# Altium footprint library Udemy_Library.PcbLib: 38 footprints (part 3 of 3)
Each footprint in its own frame and in the unit in brackets; x right, y up, seen from the top. Pads: shape width x height; smd on the part's side, far side on the other; paste and mask are expansions set on the pad; w line width, h text height; cw(c..) or ccw(c..) is an arc to the next point about the centre after c.
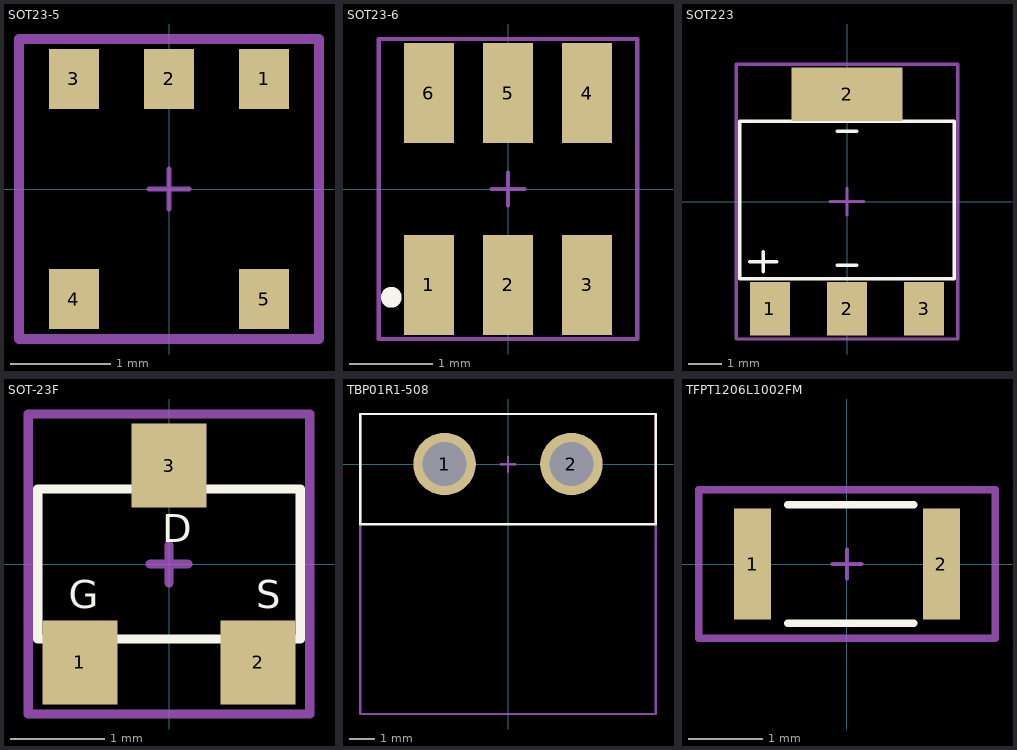
[diagram p2: the footprints below, top view; thin cyan lines are the x and y axes]

## SOT23-5 [mm]
pads (5):
  rect 0.5x0.6 smd mask+0.05: 1(0.95,1.1) 2(0,1.1) 3(-0.95,1.1) 4(-0.95,-1.1) 5(0.95,-1.1)
Top Component Center:
  lines w0.05: -0.2,0 0.2,0 ; 0,-0.2 0,0.2
  lines w0.1: -1.5,-1.5 -1.5,1.5 1.5,1.5 1.5,-1.5 -1.5,-1.5
Top Designator:
  lines w0.1: -1.5,-1.5 1.5,-1.5 1.5,1.5 -1.5,1.5 -1.5,-1.5
  text "d.Designator" at -0.553,-0.145 h0.3
3D body "SOT23-5.stp": height 1.2, standoff 0, extent -1.45,-1.4 1.45,1.4

## SOT23-6 [mm]
pads (6):
  rect 0.6x1.2 smd mask+0.05: 1(-0.95,-1.15) 2(0,-1.15) 3(0.95,-1.15) 4(0.95,1.15) 5(0,1.15) 6(-0.95,1.15)
Top Overlay:
  circle w0.15: c-1.4,-1.3 r0.05
Top Component Center:
  lines w0.05: -0.2,0 0.2,0 ; 0,-0.2 0,0.2 ; -1.55,-1.8 -1.55,1.8 1.55,1.8 1.55,-1.8 -1.55,-1.8
Top Designator:
  lines w0.05: -1.55,-1.8 1.55,-1.8 1.55,1.8 -1.55,1.8 -1.55,-1.8
  text "d.Designator" at -0.28,-0.263 h0.2
3D body "SOT23-6L_STM.step": height 1.45, standoff 0, extent -1.524,-1.499 1.524,1.499

## SOT223 [mm]
pads (4):
  rect 1.2x1.6 smd mask+0.05: 1(-2.3,-3.2) 2(0,-3.2) 3(2.3,-3.2)
  rect 3.3x1.6 smd mask+0.05: 2(0,3.2)
Top Overlay:
  lines w0.1: -2.9,-1.8 -2.1,-1.8 ; -2.5,-2.1 -2.5,-1.5 ; -0.3,-1.9 0.3,-1.9 ; -0.3,2.1 0.3,2.1 ; -3.2,-2.3 3.2,-2.3 3.2,2.4 -3.2,2.4 -3.2,-2.3
Top Component Center:
  lines w0.1: -0.5,0 0.5,0 ; 0,-0.4 0,0.4 ; -3.3,-4.1 -3.3,4.1 3.3,4.1 3.3,-4.1 -3.3,-4.1
Top Designator:
  lines w0.1: -3.3,-4.1 -3.3,4.1 3.3,4.1 3.3,-4.1 -3.3,-4.1
  text "d.Designator" at -2.7,0.667 h0.5
3D body "SOT-223.step": height 1.7, standoff 0.02, extent -3.25,-3.48 3.25,3.48

## SOT-23F [mm]
pads (3):
  rect 0.8x0.9 smd mask+0.05: 1(-0.95,-1.05) 2(0.95,-1.05) 3(0,1.05)
Top Overlay:
  lines w0.1: -1.4,-0.8 1.4,-0.8 1.4,0.8 0.3,0.8 -0.3,0.8 -1.4,0.8 -1.4,-0.8
  text "G" at -1.07,-0.47 h0.3
  text "S" at 0.93,-0.47 h0.3
  text "D" at -0.07,0.23 h0.3
Top Component Center:
  lines w0.1: -0.2,0 0.2,0 ; 0,-0.2 0,0.2 ; -1.5,-1.6 1.5,-1.6 1.5,1.6 -1.5,1.6 -1.5,-1.6
Top Designator:
  lines w0.1: -1.5,-1.6 1.5,-1.6 1.5,1.6 -1.5,1.6 -1.5,-1.6
  text "'d.Designator" at -1.15,-0.05 h0.3
3D body "SOT23F-1.STEP": height 0.91, standoff 0, extent -1.45,-1.2 1.45,1.2

## TBP01R1-508 [mm]
pads (2):
  round 2.5 hole 1.75 mask+0.05: 1(-2.54,0) 2(2.54,0)
Top Overlay:
  lines w0.1: -5.9,-2.4 -5.9,2 5.9,2 5.9,-2.4 -5.9,-2.4
Top Component Center:
  lines w0.1: -0.3,0 0.3,0 ; 0,-0.3 0,0.3 ; -5.9,-10 -5.9,2 5.9,2 5.9,-10 -5.9,-10
Top Designator:
  lines w0.1: -5.9,-10 -5.9,2 5.9,2 5.9,-10 -5.9,-10
  text "d.Designator" at -4.1,-3.733 h0.5
3D body "TBP01R1-508-02BE.step": height 9.5, standoff -3, extent -5.9,-10 5.86,2

## TFPT1206L1002FM [mm]
pads (2):
  rect 0.5x1.5 smd mask+0.05: 1(-1.275,0) 2(1.275,0)
Top Overlay:
  lines w0.1: -0.8,-0.8 0.9,-0.8 ; -0.8,0.8 0.9,0.8
Top Component Center:
  lines w0.05: -0.2,0 0.2,0 ; 0,-0.2 0,0.2
  lines w0.1: -2,-1 -2,1 2,1 2,-1 -2,-1
Top Designator:
  lines w0.1: -2,-1 2,-1 2,1 -2,1 -2,-1
  text "d.Designator" at -1.65,0.05 h0.3
3D body "res1206r.STEP": height 0.55, standoff 0, extent -1.984,-0.938 1.985,0.938